# EAGLE library part TPS6211X (library MAX9812)
Ti's TPS6211* 17-V, 1.5-A, SYNCHRONOUS STEP-DOWN CONVERTER Description: The TPS6211x devices are a family of low-noise synchronous step-down dc-dc converters that are ideally suited for systems powered from a 2-cell Li-ion battery or from a 12-V or 15-V rail. The TPS6211x is a synchronous PWM converter with integrated ? and P-channel power MOSFET switches. Synchronous rectification is used to increase efficiency and to reduce external component count. To achieve highest efficiency over a wide load current range, the converter enters a power-saving, pulse-frequency modulation (PFM) mode at light load currents. Operating frequency is typically 1 MHz, allowing the use of small inductor and capacitor values. The device can be syncronized to an external clock signal in the range of 0.8 MHz to 1.4 MHz. For low noise operation, the converter can be operated in PWM-only mode. In the shutdown mode, the current consumption is reduced to less than 2 ?A. The TPS6211x is available in the 16-pin (RSA) QFN package, and operates over a free-air temperature range of ?40°C to 85°C. Features: High-Efficiency Synchronous Step-DownConverter With up to 95% Efficiency 3.1-V to 17-V Operating Input Voltage Range Adjustable Output Voltage Range From 1.2 V to 16 V Fixed Output Voltage Options Available in 3.3 V and 5 V Synchronizable to External Clock Signal up to 1.4 MHz Up to 1.5-A Output Current High Efficiency Over a Wide Load Current Range Due to PFM/PWM Operation Mode 100% Maximum Duty Cycle for Lowest Dropout 20-uA Quiescent Current (Typical) Overtemperature and Overcurrent Protected Available in 16-Pin QFN Package APPLICATIONS Point-of-Load Regulation From 12-V Bus Organizers, PDAs, and Handheld PCs Handheld Scanners Please send any comments to: messi@users.sourceforge.net
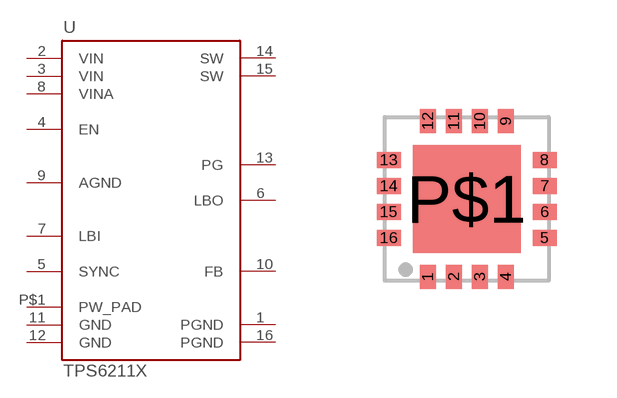
[diagram p128: symbol with the pads of QFN16; footprint QFN16]

Designator prefix U

## TPS6211X-RSA  [QFN16]
1  PGND  pwr
2  VIN  pwr
3  VIN  pwr
4  EN  in
5  SYNC  in
6  LBO  out
7  LBI  in
8  VINA  pwr
9  AGND  pwr
10  FB  pas
11  GND  pwr
12  GND  pwr
13  PG  pas
14  SW  pas
15  SW  pas
16  PGND  pwr
P$1  PW_PAD  pwr

## Footprint QFN16 (pad centres in mm)
16pin QFN package E.g.:TPS6211*
smd 0.4 x 0.6: 1 -0.975,-1.95; 2 -0.325,-1.95; 3 0.325,-1.95; 4 0.975,-1.95; 9 0.975,1.95; 10 0.325,1.95; 11 -0.325,1.95; 12 -0.975,1.95
smd 0.6 x 0.4: 5 1.95,-0.975; 6 1.95,-0.325; 7 1.95,0.325; 8 1.95,0.975; 13 -1.95,0.975; 14 -1.95,0.325; 15 -1.95,-0.325; 16 -1.95,-0.975
smd 2.7 x 2.7: P$1 0,0